# Altium footprint library MAX30102.PcbLib: 3 footprints
Each footprint in its own frame and in the unit in brackets; x right, y up, seen from the top. Pads: shape width x height; smd on the part's side, far side on the other; paste and mask are expansions set on the pad; w line width, h text height; cw(c..) or ccw(c..) is an arc to the next point about the centre after c.
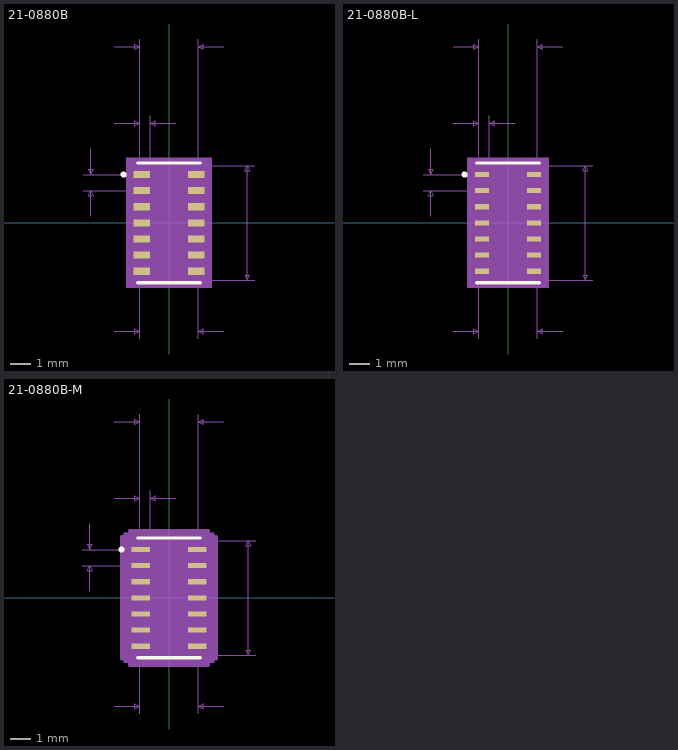
[diagram p0: the footprints below, top view; thin cyan lines are the x and y axes]

## 21-0880B [mil]
pads (14):
  rect 32x14 smd: 1(-53,94.49) 2(-53,62.99) 3(-53,31.5) 4(-53,0) 5(-53,-31.5) 6(-53,-62.99) 7(-53,-94.49) 8(53,-94.49) 9(53,-62.99) 10(53,-31.5) 11(53,0) 12(53,31.5) 13(53,62.99) 14(53,94.49)
Top Overlay:
  circle w6: c-88.75,94.49 r3
  lines w6: -62,-117 62,-117 ; -62,117 62,117
Mechanical 5:
  region: 84,-127 -84,-127 -84,127 84,127
Mechanical 7:
  lines w1: -168,62.99 -53,62.99 ; -168,94.49 -53,94.49 ; -153,12.99 -153,62.99 ; -153,144.49 -153,94.49 ; -107,-212 -57,-212 ; -107,194.49 -57,194.49 ; -107,344.49 -57,344.49 ; -57,-227 -57,-112 ; -57,209.49 -57,94.49 -57,359.49 ; -37,94.49 -37,209.49 ; 13,194.49 -37,194.49 ; 57,-227 57,-112 168,-112 ; 57,94.49 57,359.49 ; 57,112 168,112 ; 107,-212 57,-212 ; 107,344.49 57,344.49 ; -153,62.99 -148,52.99 -158,52.99 -153,62.99 ; -153,94.49 -148,104.49 -158,104.49 -153,94.49 ; -57,-212 -67,-217 -67,-207 -57,-212 ; -57,194.49 -67,189.49 -67,199.49 -57,194.49 ; -57,344.49 -67,339.49 -67,349.49 -57,344.49 ; -37,194.49 -27,189.49 -27,199.49 -37,194.49 ; 57,-212 67,-217 67,-207 57,-212 ; 57,344.49 67,339.49 67,349.49 57,344.49 ; 153,-112 158,-102 148,-102 153,-112 ; 153,-112 153,112 ; 153,112 158,102 148,102 153,112
  text "0.114in/2.896mm" at -93.75,-257 h25
  text "0.224in/5.69mm" at 173,-12.5 h25
  text "0.031in/0.8mm" at -335.5,66.24 h25
  text "0.02in/0.508mm" at -134.5,214.49 h25
  text "0.114in/2.896mm" at -93.75,364.49 h25
  text "Alt 2 Padstyle: OX90Y60D30P" at -337.5,-722 h50
  text "Alt 1 Padstyle: OX60Y90D30P" at -337.5,-662 h50
  text "Default Padstyle: RX32Y14D0T" at -350,-482 h50
Mechanical 13:
  circle w0: c-37,94.49 r3
  lines w0: -12,112 ccw(c0,112) 12,112
  lines w1: -57,-112 -57,112 57,112 57,-112 -57,-112
Mechanical 15:
  region: -67,-112.24 -79,-112.24 -79,112.24 -67,112.24 -67,122 67,122 67,112.24 79,112.24 79,-112.24 67,-112.24 67,-122 -67,-122
  lines w6: -79,-112.24 -67,-112.24 -67,-122 67,-122 67,-112.24 79,-112.24 79,112.24 67,112.24 67,122 -67,122 -67,112.24 -79,112.24 -79,-112.24
3D body "21-0880B.step": height 51.1, standoff 0, extent -57,-112 57.01,112.01
3D body: height 10, standoff 0, extent 0,0 10,10

## 21-0880B-L [mil]
pads (14):
  rect 28x10 smd paste+0 mask+0: 1(-51,94.49) 2(-51,62.99) 3(-51,31.5) 4(-51,0) 5(-51,-31.5) 6(-51,-62.99) 7(-51,-94.49) 8(51,-94.49) 9(51,-62.99) 10(51,-31.5) 11(51,0) 12(51,31.5) 13(51,62.99) 14(51,94.49)
Top Overlay:
  circle w6: c-84.75,94.49 r3
  lines w6: -62,-117 62,-117 ; -62,117 62,117
Mechanical 5:
  region: 80,-127 -80,-127 -80,127 80,127
Mechanical 7:
  lines w1: -166,62.99 -51,62.99 ; -166,94.49 -51,94.49 ; -151,12.99 -151,62.99 ; -151,144.49 -151,94.49 ; -107,-212 -57,-212 ; -107,194.49 -57,194.49 ; -107,344.49 -57,344.49 ; -57,-227 -57,-112 ; -57,209.49 -57,94.49 -57,359.49 ; -37,94.49 -37,209.49 ; 13,194.49 -37,194.49 ; 57,-227 57,-112 166,-112 ; 57,94.49 57,359.49 ; 57,112 166,112 ; 107,-212 57,-212 ; 107,344.49 57,344.49 ; -151,62.99 -156,52.99 -146,52.99 -151,62.99 ; -151,94.49 -156,104.49 -146,104.49 -151,94.49 ; -57,-212 -67,-207 -67,-217 -57,-212 ; -57,194.49 -67,199.49 -67,189.49 -57,194.49 ; -57,344.49 -67,349.49 -67,339.49 -57,344.49 ; -37,194.49 -27,199.49 -27,189.49 -37,194.49 ; 57,-212 67,-207 67,-217 57,-212 ; 57,344.49 67,349.49 67,339.49 57,344.49 ; 151,-112 151,112 ; 151,-112 146,-102 156,-102 151,-112 ; 151,112 146,102 156,102 151,112
  text "Default Padstyle: RX28Y10D0T" at -350,-482 h50
  text "Alt 1 Padstyle: OX60Y90D30P" at -337.5,-662 h50
  text "Alt 2 Padstyle: OX90Y60D30P" at -337.5,-722 h50
  text "0.114in/2.896mm" at -93.75,364.49 h25
  text "0.02in/0.508mm" at -134.5,214.49 h25
  text "0.031in/0.8mm" at -333.5,66.24 h25
  text "0.224in/5.69mm" at 171,-12.5 h25
  text "0.114in/2.896mm" at -93.75,-257 h25
Mechanical 13:
  circle w6: c-37,94.49 r3
  lines w0: -12,112 ccw(c0,112) 12,112
  lines w1: -57,-112 57,-112 57,112 -57,112 -57,-112
Mechanical 15:
  region: -61,-103.49 -69,-103.49 -69,103.49 -61,103.49 -61,116 61,116 61,103.49 69,103.49 69,-103.49 61,-103.49 61,-116 -61,-116
  lines w6: -69,-103.49 -69,103.49 -61,103.49 -61,116 61,116 61,103.49 69,103.49 69,-103.49 61,-103.49 61,-116 -61,-116 -61,-103.49 -69,-103.49
3D body: height 10, standoff 0, extent 0,0 10,10
3D body "21-0880B-L.step": height 51.1, standoff 0, extent -57,-112 57.02,112.02

## 21-0880B-M [mil]
pads (14):
  rect 36x10 smd paste+0 mask+0: 1(-55,94.49) 2(-55,62.99) 3(-55,31.5) 4(-55,0) 5(-55,-31.5) 6(-55,-62.99) 7(-55,-94.49) 8(55,-94.49) 9(55,-62.99) 10(55,-31.5) 11(55,0) 12(55,31.5) 13(55,62.99) 14(55,94.49)
Top Overlay:
  circle w6: c-92.75,94.49 r3
  lines w6: -62,-117 62,-117 ; -62,117 62,117
Mechanical 5:
  region: 88,-127 -88,-127 -88,127 88,127
Mechanical 7:
  lines w1: -170,62.99 -55,62.99 ; -170,94.49 -55,94.49 ; -155,12.99 -155,62.99 ; -155,144.49 -155,94.49 ; -107,-212 -57,-212 ; -107,194.49 -57,194.49 ; -107,344.49 -57,344.49 ; -57,-227 -57,-112 ; -57,209.49 -57,94.49 -57,359.49 ; -37,94.49 -37,209.49 ; 13,194.49 -37,194.49 ; 57,-227 57,-112 170,-112 ; 57,94.49 57,359.49 ; 57,112 170,112 ; 107,-212 57,-212 ; 107,344.49 57,344.49 ; -155,62.99 -160,52.99 -150,52.99 -155,62.99 ; -155,94.49 -160,104.49 -150,104.49 -155,94.49 ; -57,-212 -67,-207 -67,-217 -57,-212 ; -57,194.49 -67,199.49 -67,189.49 -57,194.49 ; -57,344.49 -67,349.49 -67,339.49 -57,344.49 ; -37,194.49 -27,199.49 -27,189.49 -37,194.49 ; 57,-212 67,-207 67,-217 57,-212 ; 57,344.49 67,349.49 67,339.49 57,344.49 ; 155,-112 155,112 ; 155,-112 150,-102 160,-102 155,-112 ; 155,112 150,102 160,102 155,112
  text "Default Padstyle: RX36Y10D0T" at -350,-482 h50
  text "Alt 1 Padstyle: OX60Y90D30P" at -337.5,-662 h50
  text "Alt 2 Padstyle: OX90Y60D30P" at -337.5,-722 h50
  text "0.114in/2.896mm" at -93.75,364.49 h25
  text "0.02in/0.508mm" at -134.5,214.49 h25
  text "0.031in/0.8mm" at -337.5,66.24 h25
  text "0.224in/5.69mm" at 175,-12.5 h25
  text "0.114in/2.896mm" at -93.75,-257 h25
Mechanical 13:
  circle w6: c-37,94.49 r3
  lines w0: -12,112 ccw(c0,112) 12,112
  lines w1: -57,-112 57,-112 57,112 -57,112 -57,-112
Mechanical 15:
  region: -77,-119.49 -93,-119.49 -93,119.49 -77,119.49 -77,132 77,132 77,119.49 93,119.49 93,-119.49 77,-119.49 77,-132 -77,-132
  lines w6: -93,-119.49 -93,119.49 -77,119.49 -77,132 77,132 77,119.49 93,119.49 93,-119.49 77,-119.49 77,-132 -77,-132 -77,-119.49 -93,-119.49
3D body: height 10, standoff 0, extent 0,0 10,10
3D body "21-0880B-M.step": height 51.1, standoff 0, extent -57,-112 57.02,112.01